# Altium footprint library QFN50P400X400X100_HS-25N.PcbLib: 1 footprints
Each footprint in its own frame and in the unit in brackets; x right, y up, seen from the top. Pads: shape width x height; smd on the part's side, far side on the other; paste and mask are expansions set on the pad; w line width, h text height; cw(c..) or ccw(c..) is an arc to the next point about the centre after c.
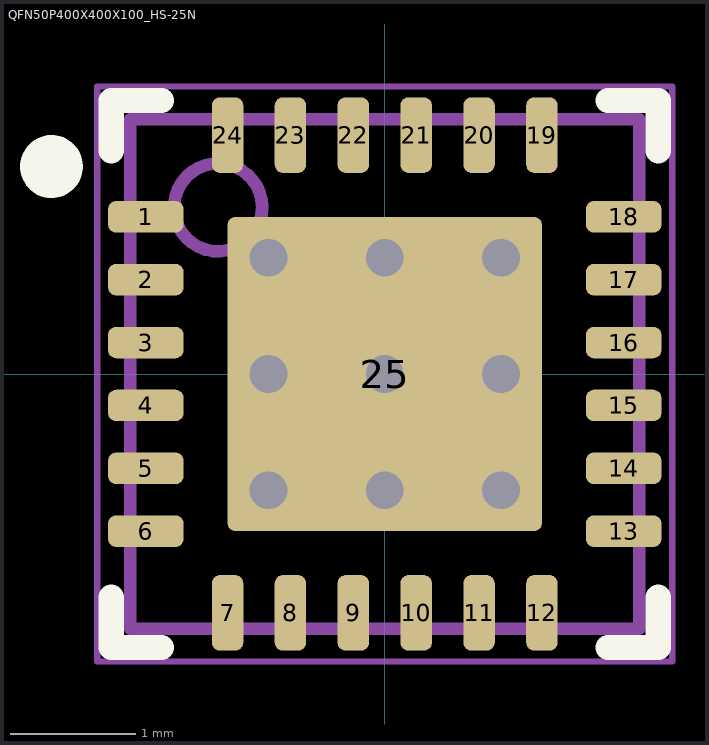
[diagram p0: the footprint, top view; thin cyan lines are the x and y axes]

## QFN50P400X400X100_HS-25N [mm] "QFN, 24-Leads, Body 4.00x4.00mm, Pitch 0.50mm, Thermal Pad 2.70x2.70mm, IPC Medium Density"
height 1
pads (25):
  rrect50% 0.6x0.25 smd paste-0.02 mask+0.05: 1(-1.9,1.25) 2(-1.9,0.75) 3(-1.9,0.25) 4(-1.9,-0.25) 5(-1.9,-0.75) 6(-1.9,-1.25) 13(1.9,-1.25) 14(1.9,-0.75) 15(1.9,-0.25) 16(1.9,0.25) 17(1.9,0.75) 18(1.9,1.25)
  rrect50% 0.25x0.6 smd paste-0.02 mask+0.05: 7(-1.25,-1.9) 8(-0.75,-1.9) 9(-0.25,-1.9) 10(0.25,-1.9) 11(0.75,-1.9) 12(1.25,-1.9) 19(1.25,1.9) 20(0.75,1.9) 21(0.25,1.9) 22(-0.25,1.9) 23(-0.75,1.9) 24(-1.25,1.9)
  rrect5% 2.5x2.5 smd paste-2 mask+0.05: 25(0,0)
via -0.925,-0.925 diameter 0.6 hole 0.3
via 0.925,-0.925 diameter 0.6 hole 0.3
via 0.925,0.925 diameter 0.6 hole 0.3
via -0.925,0.925 diameter 0.6 hole 0.3
via 0,-0.925 diameter 0.6 hole 0.3
via -0.925,0 diameter 0.6 hole 0.3
via 0,0.925 diameter 0.6 hole 0.3
via 0.925,0 diameter 0.6 hole 0.3
via 0,0 diameter 0.6 hole 0.3
Top Overlay:
  circle w0.25: c-2.65,1.65 r0.125
  lines w0.2: -2.175,-1.775 -2.175,-2.175 -1.775,-2.175 ; -2.175,1.775 -2.175,2.175 -1.775,2.175 ; 1.775,-2.175 2.175,-2.175 2.175,-1.775 ; 1.775,2.175 2.175,2.175 2.175,1.775
Top Paste:
  rectangle: 0.1,0.1 1.18,1.18
  region: -0.1,0.1 -0.1,1.18 -1.18,1.18 -1.18,0.1
  region: -0.1,-0.1 -1.18,-0.1 -1.18,-1.18 -0.1,-1.18
  region: 0.1,-0.1 0.1,-1.18 1.18,-1.18 1.18,-0.1
Top Assembly:
  circle w0.1: c-1.325,1.325 r0.35
  lines w0.1: -2.025,-2.025 2.025,-2.025 2.025,2.025 -2.025,2.025 -2.025,-2.025
Top Courtyard:
  lines w0.05: -2.286,-2.286 2.286,-2.286 2.286,2.286 -2.286,2.286 -2.286,-2.286
  lines w0.1: -0.5,0 0.5,0 ; 0,-0.5 0,0.5
3D body "QFN50P400X400X100_HS-25N.step": height 1, standoff 0, extent -2.075,-2.075 2.075,2.075